# Altium schematic symbol library Optical components.SchLib: 6 symbols
Pins are listed as number, name and electrical type; pins without a type are passive.

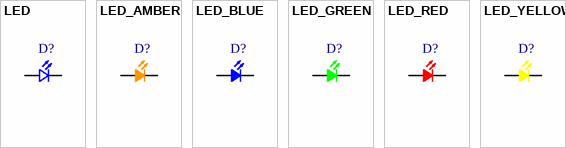
[diagram p0: symbols LED to LED_YELLOW]

## LED
designator D?
pins: A, C

## LED_AMBER
designator D?
pins: A, C

## LED_BLUE
designator D?
pins: A, C

## LED_GREEN
designator D?
pins: A, C

## LED_RED
designator D?
pins: A, C

## LED_YELLOW
designator D?
pins: A, C